# EAGLE library part TUSB2046BIVFR (library FSAE Electric)
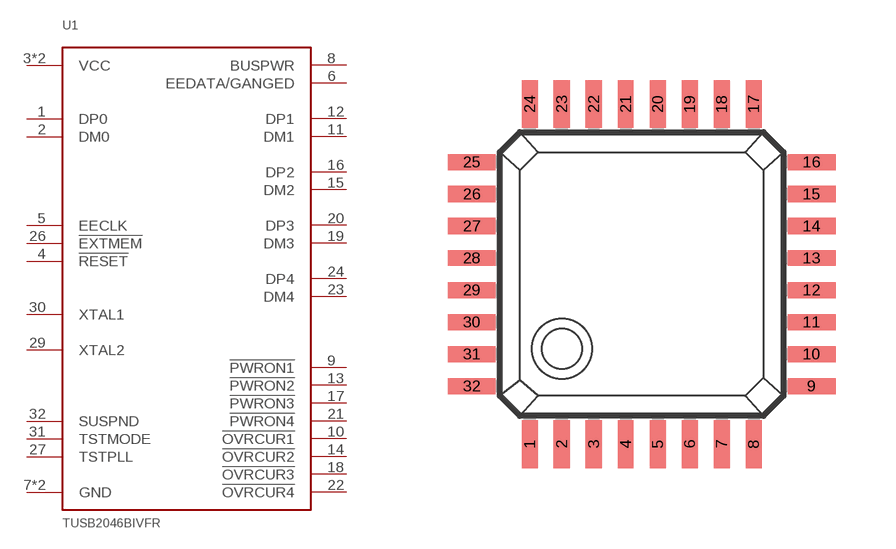
[diagram p27: symbol with the pads of LQFP-32; footprint LQFP-32]

Designator prefix U1

## TUSB2046BIVFR (PARTNO: TUSB2046BIVFRG4)  [LQFP-32]
1  DP0
2  DM0
3  VCC
4  !RESET
5  EECLK
6  EEDATA/GANGED
7  GND
8  BUSPWR
9  !PWRON1
10  !OVRCUR1
11  DM1
12  DP1
13  !PWRON2
14  !OVRCUR2
15  DM2
16  DP2
17  !PWRON3
18  !OVRCUR3
19  DM3
20  DP3
21  !PWRON4
22  !OVRCUR4
23  DM4
24  DP4
25  VCC
26  !EXTMEM
27  TSTPLL
28  GND
29  XTAL2
30  XTAL1
31  TSTMODE
32  SUSPND

## Footprint LQFP-32 (pad centres in mm)
smd 0.4 x 1.2: 1 -2.8,-4.25; 2 -2,-4.25; 3 -1.2,-4.25; 4 -0.4,-4.25; 5 0.4,-4.25; 6 1.2,-4.25; 7 2,-4.25; 8 2.8,-4.25; 17 2.8,4.25; 18 2,4.25; 19 1.2,4.25; 20 0.4,4.25; 21 -0.4,4.25; 22 -1.2,4.25; 23 -2,4.25; 24 -2.8,4.25
smd 1.2 x 0.4: 9 4.25,-2.8; 10 4.25,-2; 11 4.25,-1.2; 12 4.25,-0.4; 13 4.25,0.4; 14 4.25,1.2; 15 4.25,2; 16 4.25,2.8; 25 -4.25,2.8; 26 -4.25,2; 27 -4.25,1.2; 28 -4.25,0.4; 29 -4.25,-0.4; 30 -4.25,-1.2; 31 -4.25,-2; 32 -4.25,-2.8